# Altium integrated library ABS07-120-32.768KHZ-T.IntLib: 1 symbol
Pins are listed as number, name and electrical type; pins without a type are passive.

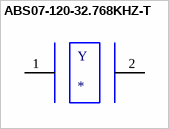
[diagram p0: symbol ABS07-120-32.768KHZ-T]

## ABS07-120-32.768KHZ-T
designator Y
32.768kHz Â±20ppm Crystal 6pF 55 kOhms 2-SMD, No Lead; MF: Abracon; MP: ABS07-120-32.768KHZ-T; Value: *; SnapEDA_Link: https://www.snapeda.com/parts/ABS07-120-32.768KHZ-T/Abracon%20LLC/view-part/330478/?ref=snap; Package: SMD-2 Abracon LLC; Digi-Key_Purchase_URL: https://www.digikey.com/product-detail/en/abracon-llc/ABS07-120-32.768KHZ-T/535-11937-1-ND/3724046?utm_source=snapeda&utm_medium=aggregator&utm_campaign=symbol; Digi-Key_Part_Number: 535-11937-1-ND
footprint XTAL_ABS07-120-32.768KHZ-T
pins: 1, 2